# EAGLE library part ARDUINO-NANO (library ArduinoNano)
Arduino-Nano that samples signals.
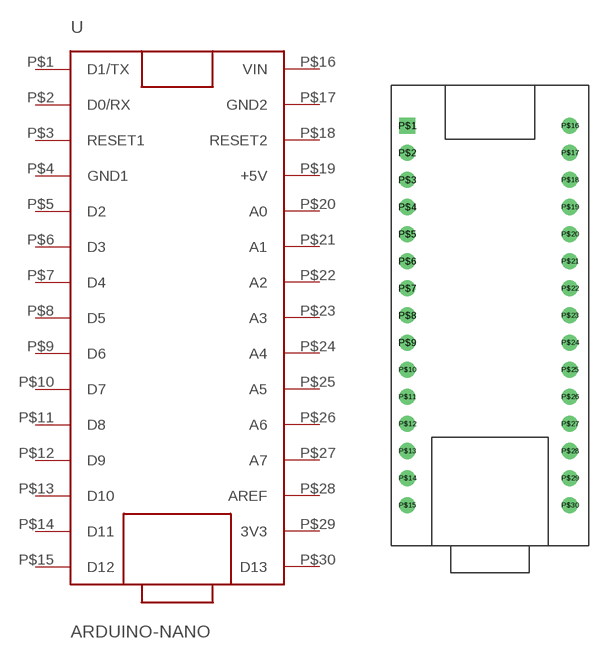
[diagram p0: symbol with the pads of NANO-PCB; footprint NANO-PCB]

Designator prefix U

## ARDUINO-NANO  [NANO-PCB]
P$1  D1/TX
P$2  D0/RX
P$3  RESET1
P$4  GND1
P$5  D2
P$6  D3
P$7  D4
P$8  D5
P$9  D6
P$10  D7
P$11  D8
P$12  D9
P$13  D10
P$14  D11
P$15  D12
P$16  VIN
P$17  GND2
P$18  RESET2
P$19  +5V
P$20  A0
P$21  A1
P$22  A2
P$23  A3
P$24  A4
P$25  A5
P$26  A6
P$27  A7
P$28  AREF
P$29  3V3
P$30  D13

## Footprint NANO-PCB (pad centres in mm)
drill 1 square: P$1 1.524,-3.81
drill 1: P$2 1.524,-6.35; P$3 1.524,-8.89; P$4 1.524,-11.43; P$5 1.524,-13.97; P$6 1.524,-16.51; P$7 1.524,-19.05; P$8 1.524,-21.59; P$9 1.524,-24.13; P$10 1.524,-26.67; P$11 1.524,-29.21; P$12 1.524,-31.75; P$13 1.524,-34.29; P$14 1.524,-36.83; P$15 1.524,-39.37; P$16 16.764,-3.81; P$17 16.764,-6.35; P$18 16.764,-8.89; P$19 16.764,-11.43; P$20 16.764,-13.97; P$21 16.764,-16.51; P$22 16.764,-19.05; P$23 16.764,-21.59; P$24 16.764,-24.13; P$25 16.764,-26.67; P$26 16.764,-29.21; P$27 16.764,-31.75; P$28 16.764,-34.29; P$29 16.764,-36.83; P$30 16.764,-39.37